# Altium footprint library Senior-Design-Custom.PcbLib: 58 footprints (part 3 of 4)
Each footprint in its own frame and in the unit in brackets; x right, y up, seen from the top. Pads: shape width x height; smd on the part's side, far side on the other; paste and mask are expansions set on the pad; w line width, h text height; cw(c..) or ccw(c..) is an arc to the next point about the centre after c.
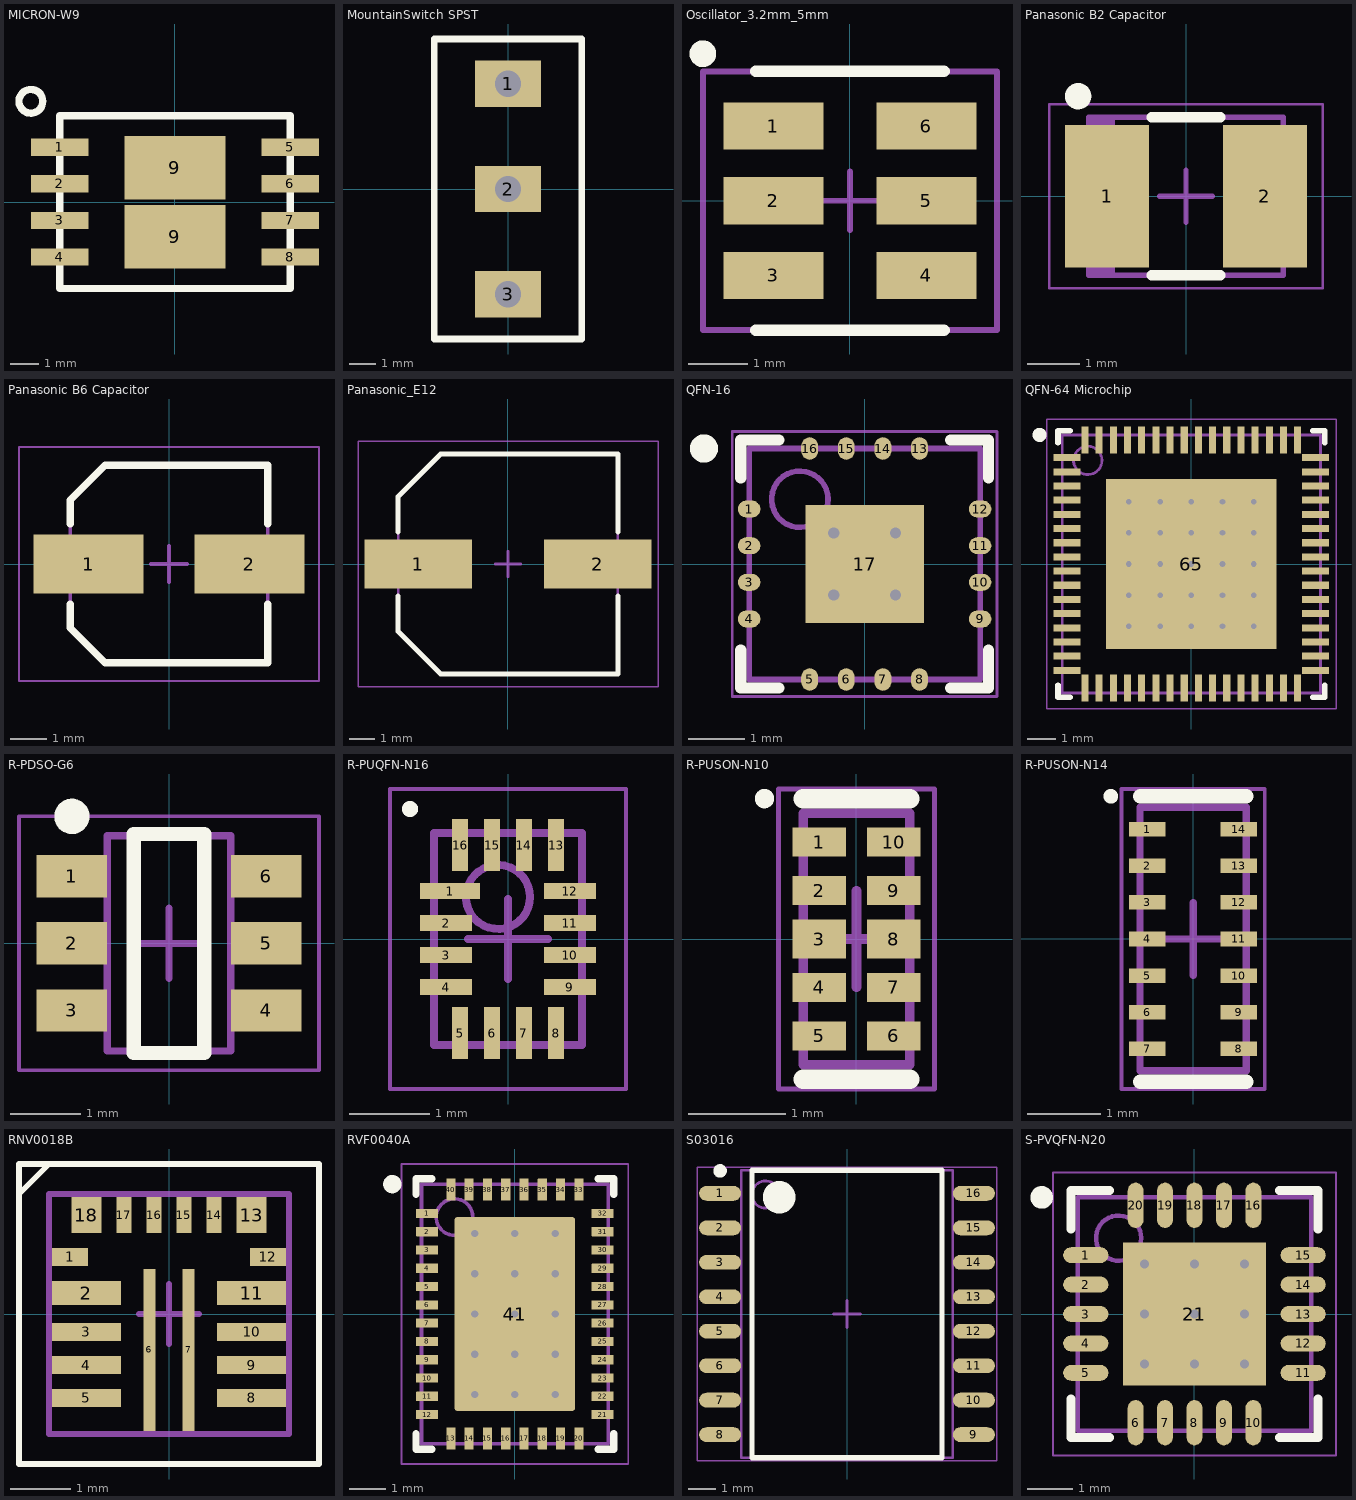
[diagram p2: the footprints below, top view; thin cyan lines are the x and y axes]

## MICRON-W9 [mm] "Micron W9 PDFN-8 Package"
height 8
pads (10):
  rect 2x0.6 smd: 1(-4,1.905) 2(-4,0.635) 3(-4,-0.635) 4(-4,-1.905) 5(4,1.905) 6(4,0.635) 7(4,-0.635) 8(4,-1.905)
  rect 3.5x2.2 smd: 9(0,-1.2) 9(0,1.2)
Top Overlay:
  circle w0.254: c-5,3.5 r0.412
  lines w0.254: -4,-3 -4,3 4,3 4,-3 -4,-3
3D body: height 0.8, standoff 0, extent -4,-3 4,3

## MountainSwitch SPST [mm] "SPST Slide Switch"
pads (3):
  rect 2.5x1.75 hole 1 square: 1(0,4) 2(0,0) 3(0,-4)
Top Overlay:
  lines w0.254: -2.8,-5.7 2.8,-5.7 2.8,5.7 -2.8,5.7 -2.8,-5.7
3D body "103-1210P-EV.stp": height 8.86, standoff -4.5, extent -2.8,-5.7 2.8,5.7

## Oscillator_3.2mm_5mm [mm] "Silicon Labs Oscillator"
height 1.33
pads (6):
  rect 1.7x0.8 smd: 1(-1.3,1.27) 2(-1.3,0) 3(-1.3,-1.27) 4(1.3,-1.27) 5(1.3,0) 6(1.3,1.27)
Top Overlay:
  circle w0.254: c-2.5,2.5 r0.1
  lines w0.2: -1.6,-2.2 1.6,-2.2 ; -1.6,2.2 1.6,2.2
Mechanical 15:
  lines w0.1: -0.5,0 0.5,0 ; 0,-0.5 0,0.5 ; -2.5,-2.2 2.5,-2.2 2.5,2.2 -2.5,2.2 -2.5,-2.2

## Panasonic B2 Capacitor [mm] "Panasonic B2 Tantalum Polymer Capacitor"
height 2
pads (2):
  rect 1.6x2.7 smd: 1(-1.5,0) 2(1.5,0)
Top Overlay:
  circle w0.25: c-2.05,1.9 r0.125
  lines w0.2: -0.65,-1.5 0.65,-1.5 ; -0.65,1.5 0.65,1.5
Mechanical 13:
  rectangle: -1.85,-1.5 -1.352,1.5
  lines w0.1: -1.85,-1.5 1.85,-1.5 1.85,1.5 -1.85,1.5 -1.85,-1.5
Mechanical 15:
  lines w0.05: -2.6,-1.75 2.6,-1.75 2.6,1.75 -2.6,1.75 -2.6,-1.75
  lines w0.1: -0.5,0 0.5,0 ; 0,-0.5 0,0.5
3D body "Panasonic B2 Capacitor.step": height 2, standoff 0, extent -2.07,-1.5 2.07,1.5

## Panasonic B6 Capacitor [mm] "Panasonic B6 Aluminum Polymer Capacitor case"
height 6
pads (2):
  rect 3x1.6 smd: 1(-2.2,0) 2(2.2,0)
Top Overlay:
  lines w0.2: -2.7,-1.1 -2.7,-1.75 -1.75,-2.7 2.7,-2.7 2.7,-1.1 ; -2.7,1.1 -2.7,1.75 -1.75,2.7 2.7,2.7 2.7,1.1
Mechanical 13:
  lines w0.1: -2.7,-1.75 -1.75,-2.7 2.7,-2.7 2.7,2.7 -1.75,2.7 -2.7,1.75 -2.7,-1.75
Mechanical 15:
  lines w0.05: -4.1,-3.2 -4.1,3.2 4.1,3.2 4.1,-3.2 -4.1,-3.2
  lines w0.1: -0.5,0 0.5,0 ; 0,-0.5 0,0.5
3D body "Panasonic B6 Capacitor.step": height 6, standoff 0, extent -3,-2.7 3,2.7

## Panasonic_E12 [mm] "Panasonic E12 Aluminum Polimer Capacitor"
height 12
pads (2):
  rect 4.15x1.9 smd: 1(-3.475,0) 2(3.475,0)
Top Overlay:
  lines w0.2: -4.25,-1.25 -4.25,-2.6 -2.6,-4.25 4.25,-4.25 4.25,-1.25 ; -4.25,1.25 -4.25,2.6 -2.6,4.25 4.25,4.25 4.25,1.25
Mechanical 13:
  lines w0.1: -4.25,-2.6 -4.25,2.6 -2.6,4.25 4.25,4.25 4.25,-4.25 -2.6,-4.25 -4.25,-2.6
Mechanical 15:
  lines w0.05: -5.8,-4.75 5.8,-4.75 5.8,4.75 -5.8,4.75 -5.8,-4.75
  lines w0.1: -0.5,0 0.5,0 ; 0,-0.5 0,0.5
3D body "Panasonic E12.step": height 12, standoff 0, extent -4.5,-4.25 4.5,4.25

## QFN-16 [mm] "EMC2305 Package: QFN, 16-Leads, Body 4.00x4.00mm, Pitch 0.65mm, Thermal Pad 2.10x2.10mm, IPC High Density"
height 0.85
pads (17):
  oval 0.4x0.3 smd: 1(-2.05,0.975) 2(-2.05,0.325) 3(-2.05,-0.325) 4(-2.05,-0.975) 9(2.05,-0.975) 10(2.05,-0.325) 11(2.05,0.325) 12(2.05,0.975)
  oval 0.3x0.4 smd: 5(-0.975,-2.05) 6(-0.325,-2.05) 7(0.325,-2.05) 8(0.975,-2.05) 13(0.975,2.05) 14(0.325,2.05) 15(-0.325,2.05) 16(-0.975,2.05)
  rect 2.1x2.1 smd: 17(0,0)
via 0.55,-0.55 diameter 0.5 hole 0.2
via -0.55,-0.55 diameter 0.5 hole 0.2
via 0.55,0.55 diameter 0.5 hole 0.2
via -0.55,0.55 diameter 0.5 hole 0.2
Top Overlay:
  circle w0.25: c-2.85,2.05 r0.125
  lines w0.2: -2.2,-1.525 -2.2,-2.2 -1.525,-2.2 ; -2.2,1.525 -2.2,2.2 -1.525,2.2 ; 1.525,-2.2 2.2,-2.2 2.2,-1.525 ; 1.525,2.2 2.2,2.2 2.2,1.525
Mechanical 13:
  circle w0.1: c-1.15,1.15 r0.5
  lines w0.1: -2.05,-2.05 2.05,-2.05 2.05,2.05 -2.05,2.05 -2.05,-2.05
Mechanical 15:
  lines w0.05: -2.35,-2.35 2.35,-2.35 2.35,2.35 -2.35,2.35 -2.35,-2.35
  lines w0.1: -0.5,0 0.5,0 ; 0,-0.5 0,0.5
3D body "QFN-16.step": height 0.85, standoff 0, extent -2.051,-2.051 2.051,2.051

## QFN-64 Microchip [mm] "Microchip QFN-64"
height 1
pads (65):
  rect 0.95x0.25 smd: 1(-4.375,3.75) 2(-4.375,3.25) 3(-4.375,2.75) 4(-4.375,2.25) 5(-4.375,1.75) 6(-4.375,1.25) 7(-4.375,0.75) 8(-4.375,0.25) 9(-4.375,-0.25) 10(-4.375,-0.75) 11(-4.375,-1.25) 12(-4.375,-1.75) 13(-4.375,-2.25) 14(-4.375,-2.75) 15(-4.375,-3.25) 16(-4.375,-3.75) 33(4.375,-3.75) 34(4.375,-3.25) 35(4.375,-2.75) 36(4.375,-2.25) 37(4.375,-1.75) 38(4.375,-1.25) 39(4.375,-0.75) 40(4.375,-0.25) 41(4.375,0.25) 42(4.375,0.75) 43(4.375,1.25) 44(4.375,1.75) 45(4.375,2.25) 46(4.375,2.75) 47(4.375,3.25) 48(4.375,3.75)
  rect 0.25x0.95 smd: 17(-3.75,-4.375) 18(-3.25,-4.375) 19(-2.75,-4.375) 20(-2.25,-4.375) 21(-1.75,-4.375) 22(-1.25,-4.375) 23(-0.75,-4.375) 24(-0.25,-4.375) 25(0.25,-4.375) 26(0.75,-4.375) 27(1.25,-4.375) 28(1.75,-4.375) 29(2.25,-4.375) 30(2.75,-4.375) 31(3.25,-4.375) 32(3.75,-4.375) 49(3.75,4.375) 50(3.25,4.375) 51(2.75,4.375) 52(2.25,4.375) 53(1.75,4.375) 54(1.25,4.375) 55(0.75,4.375) 56(0.25,4.375) 57(-0.25,4.375) 58(-0.75,4.375) 59(-1.25,4.375) 60(-1.75,4.375) 61(-2.25,4.375) 62(-2.75,4.375) 63(-3.25,4.375) 64(-3.75,4.375)
  rect 6x6 smd: 65(0,0)
via 2.2,-2.2 diameter 0.5 hole 0.2
via 1.1,-2.2 diameter 0.5 hole 0.2
via 0,-2.2 diameter 0.5 hole 0.2
via -1.1,-2.2 diameter 0.5 hole 0.2
via -2.2,-2.2 diameter 0.5 hole 0.2
via 2.2,-1.1 diameter 0.5 hole 0.2
via 1.1,-1.1 diameter 0.5 hole 0.2
via 0,-1.1 diameter 0.5 hole 0.2
via -1.1,-1.1 diameter 0.5 hole 0.2
via -2.2,-1.1 diameter 0.5 hole 0.2
via 2.2,0 diameter 0.5 hole 0.2
via 1.1,0 diameter 0.5 hole 0.2
via 0,0 diameter 0.5 hole 0.2
via -1.1,0 diameter 0.5 hole 0.2
via -2.2,0 diameter 0.5 hole 0.2
via 2.2,1.1 diameter 0.5 hole 0.2
via 1.1,1.1 diameter 0.5 hole 0.2
via 0,1.1 diameter 0.5 hole 0.2
via -1.1,1.1 diameter 0.5 hole 0.2
via -2.2,1.1 diameter 0.5 hole 0.2
via 2.2,2.2 diameter 0.5 hole 0.2
via 1.1,2.2 diameter 0.5 hole 0.2
via 0,2.2 diameter 0.5 hole 0.2
via -1.1,2.2 diameter 0.5 hole 0.2
via -2.2,2.2 diameter 0.5 hole 0.2
Top Overlay:
  circle w0.25: c-5.35,4.55 r0.125
  lines w0.2: -4.7,-4.275 -4.7,-4.7 -4.275,-4.7 ; -4.7,4.275 -4.7,4.7 -4.275,4.7 ; 4.275,-4.7 4.7,-4.7 4.7,-4.275 ; 4.275,4.7 4.7,4.7 4.7,4.275
Mechanical 13:
  circle w0.1: c-3.65,3.65 r0.5
  lines w0.1: -4.55,-4.55 4.55,-4.55 4.55,4.55 -4.55,4.55 -4.55,-4.55
Mechanical 15:
  lines w0.05: -5.1,-5.1 5.1,-5.1 5.1,5.1 -5.1,5.1 -5.1,-5.1
  lines w0.1: -0.5,0 0.5,0 ; 0,-0.5 0,0.5
3D body "QFN-64 Microchip.step": height 1, standoff 0, extent -4.551,-4.551 4.551,4.551

## R-PDSO-G6 [mm] "Texas Instruments DDC PSOT-23-6"
height 1
pads (6):
  rect 1x0.6 smd: 1(-1.375,0.95) 2(-1.375,0) 3(-1.375,-0.95) 4(1.375,-0.95) 5(1.375,0) 6(1.375,0.95)
Top Overlay:
  circle w0.25: c-1.375,1.8 r0.125
  lines w0.2: -0.5,-1.55 -0.5,1.55 0.5,1.55 0.5,-1.55 -0.5,-1.55
Mechanical 13:
  lines w0.1: -0.875,-1.525 0.875,-1.525 0.875,1.525 -0.875,1.525 -0.875,-1.525
Mechanical 15:
  lines w0.05: -2.125,-1.8 2.125,-1.8 2.125,1.8 -2.125,1.8 -2.125,-1.8
  lines w0.1: -0.5,0 0.5,0 ; 0,-0.5 0,0.5
3D body "R-PDSO-G6.step": height 1, standoff 0, extent -1.525,-1.525 1.525,1.525

## R-PUQFN-N16 [mm] "Texas Instruments QFP-16"
height 0.55
pads (16):
  rect 0.75x0.2 smd: 1(-0.725,0.6)
  rect 0.65x0.2 smd: 2(-0.775,0.2) 3(-0.775,-0.2) 4(-0.775,-0.6) 9(0.775,-0.6) 10(0.775,-0.2) 11(0.775,0.2) 12(0.775,0.6)
  rect 0.2x0.65 smd: 5(-0.6,-1.175) 6(-0.2,-1.175) 7(0.2,-1.175) 8(0.6,-1.175) 13(0.6,1.175) 14(0.2,1.175) 15(-0.2,1.175) 16(-0.6,1.175)
Top Overlay:
  circle w0.1: c-1.225,1.625 r0.05
Mechanical 13:
  circle w0.1: c-0.125,0.525 r0.4
  lines w0.1: -0.925,-1.325 0.925,-1.325 0.925,1.325 -0.925,1.325 -0.925,-1.325
Mechanical 15:
  lines w0.05: -1.475,-1.875 1.475,-1.875 1.475,1.875 -1.475,1.875 -1.475,-1.875
  lines w0.1: -0.5,0 0.5,0 ; 0,-0.5 0,0.5
3D body "R-PUQFN-N16.step": height 0.55, standoff 0, extent -0.926,-1.326 0.926,1.326

## R-PUSON-N10 [mm] "PSON, 10-Leads, Body 2.50x1.00mm, Pitch 0.50mm, IPC Medium Density"
height 0.55
pads (10):
  rect 0.55x0.3 smd mask+0.05: 1(-0.385,1) 2(-0.385,0.5) 4(-0.385,-0.5) 5(-0.385,-1) 6(0.385,-1) 7(0.385,-0.5) 9(0.385,0.5) 10(0.385,1)
  rect 0.55x0.4 smd mask+0.05: 3(-0.385,0) 8(0.385,0)
Top Overlay:
  circle w0.1: c-0.95,1.45 r0.05
  lines w0.2: -0.55,-1.45 0.55,-1.45 ; -0.55,1.45 0.55,1.45
Mechanical 13:
  lines w0.1: -0.55,-1.3 -0.55,1.3 0.55,1.3 0.55,-1.3 -0.55,-1.3
Mechanical 15:
  lines w0.05: -0.805,-1.55 -0.805,1.55 0.805,1.55 0.805,-1.55 -0.805,-1.55
  lines w0.1: -0.5,0 0.5,0 ; 0,-0.5 0,0.5
3D body: height 0.55, standoff 0, extent -0.55,-1.3 0.55,1.3

## R-PUSON-N14 [mm] "PSON, 14-Leads, Body 3.50x1.35mm, Pitch 0.50mm, IPC Medium Density"
height 0.55
pads (14):
  rect 0.5x0.2 smd: 1(-0.625,1.5) 2(-0.625,1) 3(-0.625,0.5) 4(-0.625,0) 5(-0.625,-0.5) 6(-0.625,-1) 7(-0.625,-1.5) 8(0.625,-1.5) 9(0.625,-1) 10(0.625,-0.5) 11(0.625,0) 12(0.625,0.5) 13(0.625,1) 14(0.625,1.5)
Top Overlay:
  circle w0.1: c-1.125,1.95 r0.05
  lines w0.2: -0.725,-1.95 0.725,-1.95 ; -0.725,1.95 0.725,1.95
Mechanical 13:
  lines w0.1: -0.725,-1.8 0.725,-1.8 0.725,1.8 -0.725,1.8 -0.725,-1.8
Mechanical 15:
  lines w0.05: -0.98,-2.05 0.98,-2.05 0.98,2.05 -0.98,2.05 -0.98,-2.05
  lines w0.1: -0.5,0 0.5,0 ; 0,-0.5 0,0.5
3D body: height 0.55, standoff 0, extent -0.725,-1.8 0.725,1.8

## RNV0018B [mm] "Texas Instruments VQFN-HR - 1 mm max height"
height 1
pads (18):
  rect 0.6x0.3 smd mask+0.05: 1(-1.65,0.95) 12(1.65,0.95)
  rect 1.15x0.4 smd mask+0.05: 2(-1.375,0.35) 11(1.375,0.35)
  rect 1.15x0.3 smd mask+0.05: 3(-1.375,-0.3) 4(-1.375,-0.85) 5(-1.375,-1.4) 8(1.375,-1.4) 9(1.375,-0.85) 10(1.375,-0.3)
  rect 0.2x2.7 smd paste-5 mask+0.05: 6(-0.325,-0.6) 7(0.325,-0.6)
  rect 0.5x0.6 smd mask+0.05: 13(1.375,1.65) 18(-1.375,1.65)
  rect 0.25x0.6 smd mask+0.05: 14(0.75,1.65) 15(0.25,1.65) 16(-0.25,1.65) 17(-0.75,1.65)
Top Overlay:
  lines w0.1: -2.5,2 -2,2.5 ; -2.5,-2.5 -2.5,2.5 2.5,2.5 2.5,-2.5 -2.5,-2.5
Top Paste:
  region: 0.225,-1.18 0.225,-1.95 0.425,-1.95 0.425,-1.18
  region: -0.425,-1.18 -0.425,-1.95 -0.225,-1.95 -0.225,-1.18
  region: 0.225,-0.215 0.225,-0.985 0.425,-0.985 0.425,-0.215
  region: -0.425,-0.215 -0.425,-0.985 -0.225,-0.985 -0.225,-0.215
  region: -0.425,0.77 -0.425,0 -0.225,0 -0.225,0.77
  region: 0.225,0.77 0.225,0 0.425,0 0.425,0.77
Mechanical 15:
  lines w0.1: -0.5,0 0.5,0 ; 0,-0.5 0,0.5 ; -2,-2 -2,2 2,2 2,-2 -2,-2

## RVF0040A [mm] "Texas Instruments LQFN-CLIP - 1.52 mm max height"
height 1.52
pads (49):
  rrect5% 0.6x0.25 smd mask+0.07: 1(-2.4,2.75) 2(-2.4,2.25) 3(-2.4,1.75) 4(-2.4,1.25) 5(-2.4,0.75) 6(-2.4,0.25) 7(-2.4,-0.25) 8(-2.4,-0.75) 9(-2.4,-1.25) 10(-2.4,-1.75) 11(-2.4,-2.25) 21(2.4,-2.75) 22(2.4,-2.25) 23(2.4,-1.75) 24(2.4,-1.25) 25(2.4,-0.75) 26(2.4,-0.25) 27(2.4,0.25) 28(2.4,0.75) 29(2.4,1.25) 30(2.4,1.75) 31(2.4,2.25) 32(2.4,2.75)
  rrect0% 0.6x0.25 smd mask+0.07: 12(-2.4,-2.75)
  rrect5% 0.25x0.6 smd mask+0.07: 13(-1.75,-3.4) 14(-1.25,-3.4) 15(-0.75,-3.4) 16(-0.25,-3.4) 17(0.25,-3.4) 18(0.75,-3.4) 19(1.25,-3.4) 20(1.75,-3.4) 33(1.75,3.4) 34(1.25,3.4) 35(0.75,3.4) 36(0.25,3.4) 37(-0.25,3.4) 38(-0.75,3.4) 39(-1.25,3.4) 40(-1.75,3.4)
  rrect5% 3.3x5.3 smd paste-10 mask+0.07: 41(0,0)
  rrect5% 1.43x1.08 on Top Paste: ""(-0.815,-1.92) ""(-0.815,-0.64) ""(-0.815,0.64) ""(-0.815,1.92) ""(0.815,-1.92) ""(0.815,-0.64) ""(0.815,0.64) ""(0.815,1.92)
via 1.1,-2.2 diameter 0.5 hole 0.2
via 0,-2.2 diameter 0.5 hole 0.2
via -1.1,-2.2 diameter 0.5 hole 0.2
via 1.1,-1.1 diameter 0.5 hole 0.2
via 0,-1.1 diameter 0.5 hole 0.2
via -1.1,-1.1 diameter 0.5 hole 0.2
via 1.1,0 diameter 0.5 hole 0.2
via 0,0 diameter 0.5 hole 0.2
via -1.1,0 diameter 0.5 hole 0.2
via 1.1,1.1 diameter 0.5 hole 0.2
via 0,1.1 diameter 0.5 hole 0.2
via -1.1,1.1 diameter 0.5 hole 0.2
via 1.1,2.2 diameter 0.5 hole 0.2
via 0,2.2 diameter 0.5 hole 0.2
via -1.1,2.2 diameter 0.5 hole 0.2
Top Overlay:
  circle w0.25: c-3.35,3.55 r0.125
  lines w0.2: -2.7,-3.275 -2.7,-3.7 -2.275,-3.7 ; -2.7,3.275 -2.7,3.7 -2.275,3.7 ; 2.275,-3.7 2.7,-3.7 2.7,-3.275 ; 2.275,3.7 2.7,3.7 2.7,3.275
Mechanical 13:
  circle w0.1: c-1.65,2.65 r0.5
  lines w0.1: -2.55,-3.55 2.55,-3.55 2.55,3.55 -2.55,3.55 -2.55,-3.55
Mechanical 15:
  lines w0.05: -3.1,-4.1 3.1,-4.1 3.1,4.1 -3.1,4.1 -3.1,-4.1
  lines w0.1: -0.5,0 0.5,0 ; 0,-0.5 0,0.5
3D body "RVF0040A.step": height 1.52, standoff 0, extent -2.551,-3.551 2.551,3.551

## S03016 [mm] "Cypress SOIC, 16-Leads, Body 10.30x7.50mm, Pitch 1.27mm, IPC High Density"
height 2.65
pads (16):
  oval 1.55x0.55 smd: 1(-4.675,4.445) 2(-4.675,3.175) 3(-4.675,1.905) 4(-4.675,0.635) 5(-4.675,-0.635) 6(-4.675,-1.905) 7(-4.675,-3.175) 8(-4.675,-4.445) 9(4.675,-4.445) 10(4.675,-3.175) 11(4.675,-1.905) 12(4.675,-0.635) 13(4.675,0.635) 14(4.675,1.905) 15(4.675,3.175) 16(4.675,4.445)
Top Overlay:
  circle w0.25: c-4.675,5.27 r0.125
  circle w0.6: c-2.5,4.3 r0.3
  lines w0.2: -3.5,-5.3 -3.5,5.3 3.5,5.3 3.5,-5.3 -3.5,-5.3
Mechanical 13:
  circle w0.1: c-3,4.4 r0.5
  lines w0.1: -3.9,-5.3 -3.9,5.3 3.9,5.3 3.9,-5.3 -3.9,-5.3
Mechanical 15:
  lines w0.05: -5.525,-5.4 -5.525,5.4 5.525,5.4 5.525,-5.4 -5.525,-5.4
  lines w0.1: -0.5,0 0.5,0 ; 0,-0.5 0,0.5
3D body "S03016.step": height 2.65, standoff 0, extent -5.15,-5.3 5.15,5.3

## S-PVQFN-N20 [mm] "Texas Instruments PQFP-20 max 1mm height"
height 1
pads (21):
  oval 1x0.35 smd: 1(-2.4,1.3) 2(-2.4,0.65) 3(-2.4,0) 4(-2.4,-0.65) 5(-2.4,-1.3) 11(2.4,-1.3) 12(2.4,-0.65) 13(2.4,0) 14(2.4,0.65) 15(2.4,1.3)
  oval 0.35x1 smd: 6(-1.3,-2.4) 7(-0.65,-2.4) 8(0,-2.4) 9(0.65,-2.4) 10(1.3,-2.4) 16(1.3,2.4) 17(0.65,2.4) 18(0,2.4) 19(-0.65,2.4) 20(-1.3,2.4)
  rect 3.15x3.15 smd: 21(0,0)
via 1.1,-1.1 diameter 0.5 hole 0.2
via 0,-1.1 diameter 0.5 hole 0.2
via -1.1,-1.1 diameter 0.5 hole 0.2
via 1.1,0 diameter 0.5 hole 0.2
via 0,0 diameter 0.5 hole 0.2
via -1.1,0 diameter 0.5 hole 0.2
via 1.1,1.1 diameter 0.5 hole 0.2
via 0,1.1 diameter 0.5 hole 0.2
via -1.1,1.1 diameter 0.5 hole 0.2
Top Overlay:
  circle w0.25: c-3.375,2.575 r0.125
  lines w0.2: -2.725,-1.875 -2.725,-2.725 -1.875,-2.725 ; -2.725,1.875 -2.725,2.725 -1.875,2.725 ; 1.875,-2.725 2.725,-2.725 2.725,-1.875 ; 1.875,2.725 2.725,2.725 2.725,1.875
Mechanical 13:
  circle w0.1: c-1.675,1.675 r0.5
  lines w0.1: -2.575,-2.575 2.575,-2.575 2.575,2.575 -2.575,2.575 -2.575,-2.575
Mechanical 15:
  lines w0.05: -3.125,-3.125 3.125,-3.125 3.125,3.125 -3.125,3.125 -3.125,-3.125
  lines w0.1: -0.5,0 0.5,0 ; 0,-0.5 0,0.5
3D body "S-PVQFN-N20.step": height 1, standoff 0, extent -2.576,-2.576 2.576,2.576